# Altium footprint library SOP8P65_300X400X110L40X30N.PcbLib: 1 footprints
Each footprint in its own frame and in the unit in brackets; x right, y up, seen from the top. Pads: shape width x height; smd on the part's side, far side on the other; paste and mask are expansions set on the pad; w line width, h text height; cw(c..) or ccw(c..) is an arc to the next point about the centre after c.
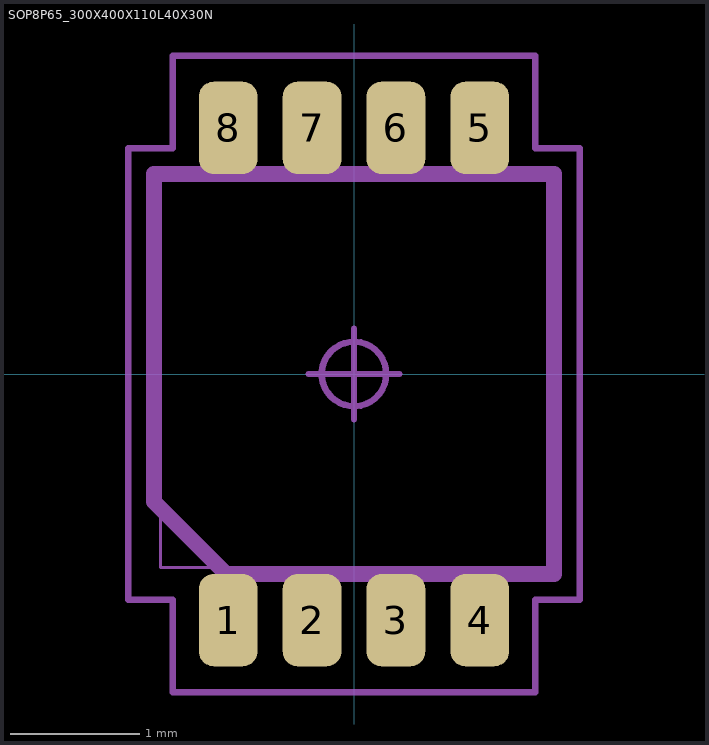
[diagram p0: the footprint, top view; thin cyan lines are the x and y axes]

## SOP8P65_300X400X110L40X30N [mm] "Small Outline Pkg (SOIC, SOP), 0.65 mm pitch; 8 pin, 3.00 mm L X 3.00 mm W X 1.10 mm H Body"
height 1.1
pads (8):
  rrect50% 0.455x0.715 smd: 1(-0.975,-1.907) 2(-0.325,-1.907) 3(0.325,-1.907) 4(0.975,-1.907) 5(0.975,1.907) 6(0.325,1.907) 7(-0.325,1.907) 8(-0.975,1.907)
Mechanical 3:
  lines w0.12: -1.55,-0.99 -0.99,-1.55 1.55,-1.55 1.55,1.55 -1.55,1.55 -1.55,-0.99
Mechanical 5:
  lines w0.025: -1.5,-1.5 -1.5,1.5 1.5,1.5 1.5,-1.5 -1.5,-1.5 ; -1.125,-2 -0.825,-2 -0.825,-1.6 -1.125,-1.6 -1.125,-2 ; -1.125,1.6 -0.825,1.6 -0.825,2 -1.125,2 -1.125,1.6 ; -0.475,-2 -0.175,-2 -0.175,-1.6 -0.475,-1.6 -0.475,-2 ; -0.475,1.6 -0.175,1.6 -0.175,2 -0.475,2 -0.475,1.6 ; 0.175,-2 0.475,-2 0.475,-1.6 0.175,-1.6 0.175,-2 ; 0.175,1.6 0.475,1.6 0.475,2 0.175,2 0.175,1.6 ; 0.825,-2 1.125,-2 1.125,-1.6 0.825,-1.6 0.825,-2 ; 0.825,1.6 1.125,1.6 1.125,2 0.825,2 0.825,1.6
Mechanical 7:
  circle w0.05: c0,0 r0.25
  lines w0.05: -0.35,0 0.35,0 ; 0,-0.35 0,0.35 ; -1.75,-1.75 -1.75,1.75 -1.403,1.75 -1.403,2.465 1.403,2.465 1.403,1.75 1.75,1.75 1.75,-1.75 1.403,-1.75 1.403,-2.465 -1.403,-2.465 -1.403,-1.75 -1.75,-1.75
Mechanical 9:
  text "'.Designator'" at -5.817,-0.271 h1.02
3D body "SOP8P65_300X400X110L40X30.STEP": height 1.1, standoff 0, extent -1.5,-2 1.5,2
3D body: height 1.1, standoff 0, extent -1.75,-2.465 1.75,2.465